# EAGLE library part CWF-8 (library gost_con_wf)
Разъем CWF шаг 2.50 mm
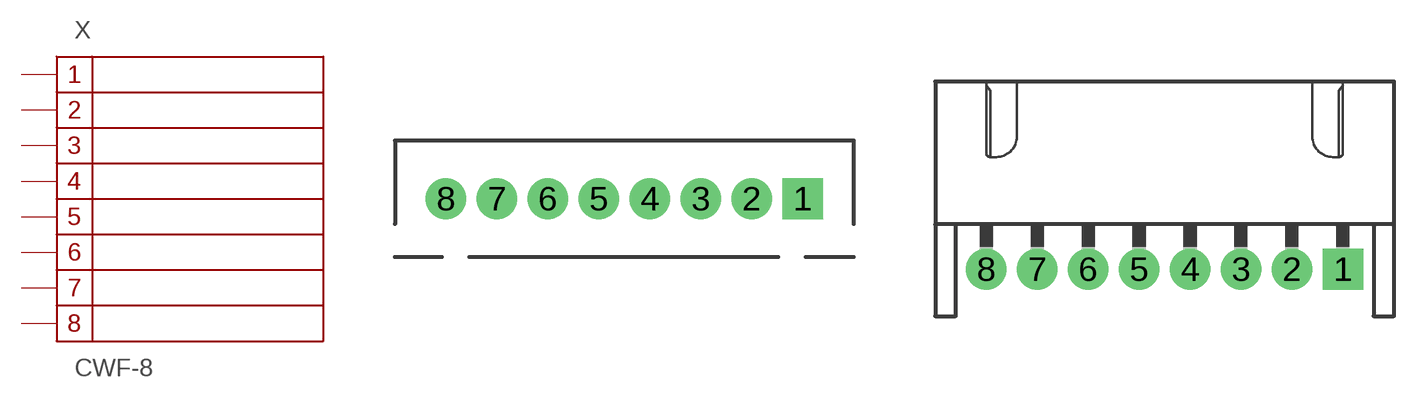
[diagram p2: symbol with the pads of CWF-8; footprints CWF-8, CWF-8R]

Designator prefix X

## CWF-8  [CWF-8]
1  1
2  2
3  3
4  4
5  5
6  6
7  7
8  8

## CWF-8R  [CWF-8R]
Pads as for CWF-8

## Footprint CWF-8 (pad centres in mm)
Разъем CWF-8 2.50mm
drill 1 pad 2 square: 1 8.75,0
drill 1 pad 2: 2 6.25,0; 3 3.75,0; 4 1.25,0; 5 -1.25,0; 6 -3.75,0; 7 -6.25,0; 8 -8.75,0

## Footprint CWF-8R (pad centres in mm)
Разъем CWF-8R 2.50mm h=9.2mm
drill 1 pad 2 square: 1 8.75,0
drill 1 pad 2: 2 6.25,0; 3 3.75,0; 4 1.25,0; 5 -1.25,0; 6 -3.75,0; 7 -6.25,0; 8 -8.75,0